# Altium schematic symbol library SCH - DAC - MI MAX5182.SCHLIB: 1 symbol
Pins are listed as number, name and electrical type; pins without a type are passive.

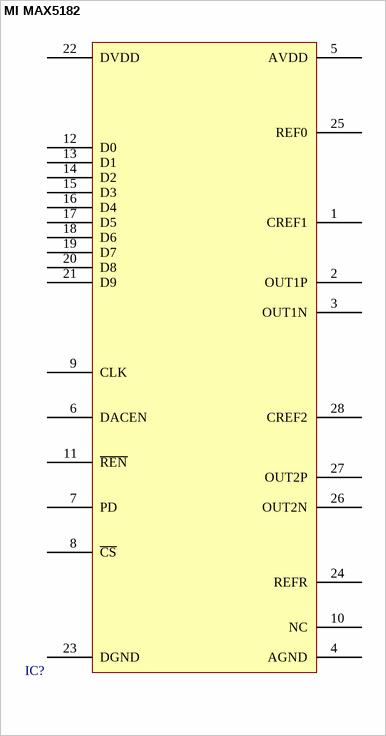
[diagram p0: symbol MI MAX5182]

## MI MAX5182
designator IC?
pins: 1 CREF1, 2 OUT1P, 3 OUT1N, 4 AGND, 5 AVDD, 6 DACEN, 7 PD, 8 ~{CS}, 9 CLK, 10 NC, 11 ~{REN}, 12 D0, 13 D1, 14 D2, 15 D3, 16 D4, 17 D5, 18 D6, 19 D7, 20 D8, 21 D9, 22 DVDD, 23 DGND, 24 REFR, 25 REF0, 26 OUT2N, 27 OUT2P, 28 CREF2